# Altium schematic symbol library SCH - MCU - TI - TI MSPM0G150X VQFN-48 RGZ.SchLib: 1 symbol
Pins are listed as number, name and electrical type; pins without a type are passive.

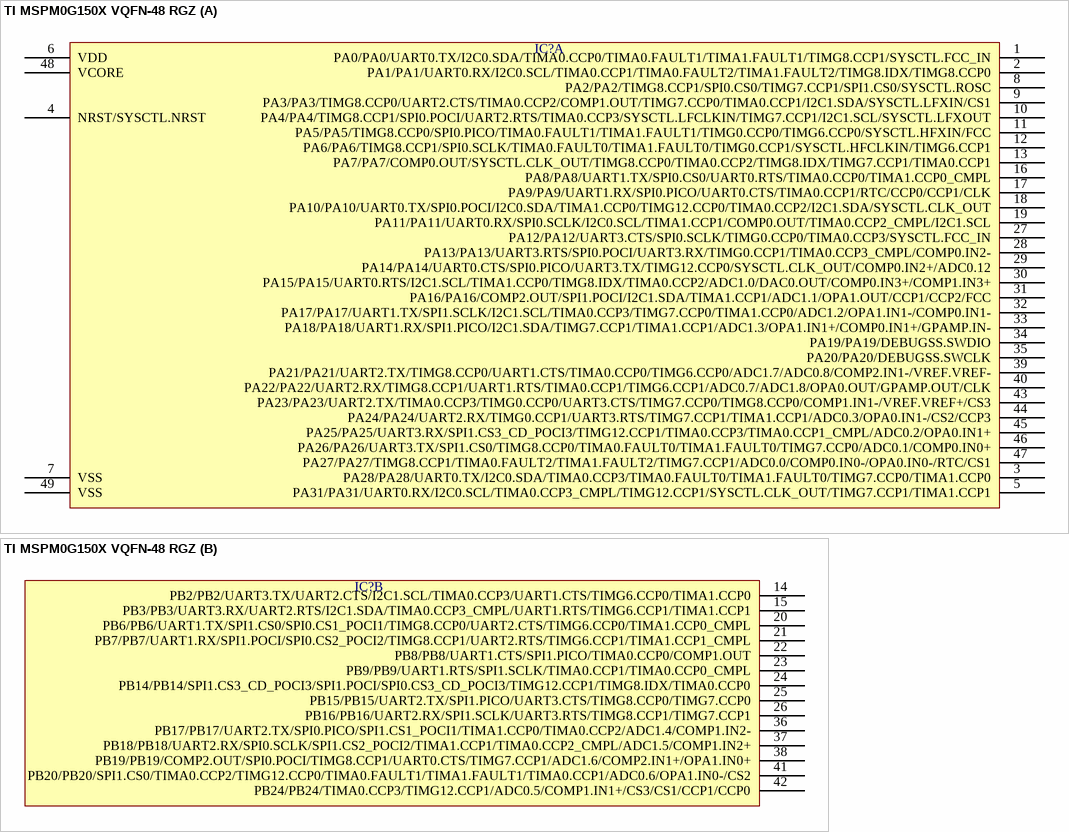
[diagram p0: symbol TI MSPM0G150X VQFN-48 RGZ]

## TI MSPM0G150X VQFN-48 RGZ
designator IC?  (value not drawn)
part A pins: 1 PA0/PA0/UART0.TX/I2C0.SDA/TIMA0.CCP0/TIMA0.FAULT1/TIMA1.FAULT1/TIMG8.CCP1/SYSCTL.FCC_IN, 2 PA1/PA1/UART0.RX/I2C0.SCL/TIMA0.CCP1/TIMA0.FAULT2/TIMA1.FAULT2/TIMG8.IDX/TIMG8.CCP0, 3 PA28/PA28/UART0.TX/I2C0.SDA/TIMA0.CCP3/TIMA0.FAULT0/TIMA1.FAULT0/TIMG7.CCP0/TIMA1.CCP0, 4 NRST/SYSCTL.NRST, 5 PA31/PA31/UART0.RX/I2C0.SCL/TIMA0.CCP3_CMPL/TIMG12.CCP1/SYSCTL.CLK_OUT/TIMG7.CCP1/TIMA1.CCP1, 6 VDD, 7 VSS, 8 PA2/PA2/TIMG8.CCP1/SPI0.CS0/TIMG7.CCP1/SPI1.CS0/SYSCTL.ROSC, 9 PA3/PA3/TIMG8.CCP0/UART2.CTS/TIMA0.CCP2/COMP1.OUT/TIMG7.CCP0/TIMA0.CCP1/I2C1.SDA/SYSCTL.LFXIN/CS1, 10 PA4/PA4/TIMG8.CCP1/SPI0.POCI/UART2.RTS/TIMA0.CCP3/SYSCTL.LFCLKIN/TIMG7.CCP1/I2C1.SCL/SYSCTL.LFXOUT, 11 PA5/PA5/TIMG8.CCP0/SPI0.PICO/TIMA0.FAULT1/TIMA1.FAULT1/TIMG0.CCP0/TIMG6.CCP0/SYSCTL.HFXIN/FCC, 12 PA6/PA6/TIMG8.CCP1/SPI0.SCLK/TIMA0.FAULT0/TIMA1.FAULT0/TIMG0.CCP1/SYSCTL.HFCLKIN/TIMG6.CCP1, 13 PA7/PA7/COMP0.OUT/SYSCTL.CLK_OUT/TIMG8.CCP0/TIMA0.CCP2/TIMG8.IDX/TIMG7.CCP1/TIMA0.CCP1, 16 PA8/PA8/UART1.TX/SPI0.CS0/UART0.RTS/TIMA0.CCP0/TIMA1.CCP0_CMPL, 17 PA9/PA9/UART1.RX/SPI0.PICO/UART0.CTS/TIMA0.CCP1/RTC/CCP0/CCP1/CLK, 18 PA10/PA10/UART0.TX/SPI0.POCI/I2C0.SDA/TIMA1.CCP0/TIMG12.CCP0/TIMA0.CCP2/I2C1.SDA/SYSCTL.CLK_OUT, 19 PA11/PA11/UART0.RX/SPI0.SCLK/I2C0.SCL/TIMA1.CCP1/COMP0.OUT/TIMA0.CCP2_CMPL/I2C1.SCL, 27 PA12/PA12/UART3.CTS/SPI0.SCLK/TIMG0.CCP0/TIMA0.CCP3/SYSCTL.FCC_IN, 28 PA13/PA13/UART3.RTS/SPI0.POCI/UART3.RX/TIMG0.CCP1/TIMA0.CCP3_CMPL/COMP0.IN2-, 29 PA14/PA14/UART0.CTS/SPI0.PICO/UART3.TX/TIMG12.CCP0/SYSCTL.CLK_OUT/COMP0.IN2+/ADC0.12, 30 PA15/PA15/UART0.RTS/I2C1.SCL/TIMA1.CCP0/TIMG8.IDX/TIMA0.CCP2/ADC1.0/DAC0.OUT/COMP0.IN3+/COMP1.IN3+, 31 PA16/PA16/COMP2.OUT/SPI1.POCI/I2C1.SDA/TIMA1.CCP1/ADC1.1/OPA1.OUT/CCP1/CCP2/FCC, 32 PA17/PA17/UART1.TX/SPI1.SCLK/I2C1.SCL/TIMA0.CCP3/TIMG7.CCP0/TIMA1.CCP0/ADC1.2/OPA1.IN1-/COMP0.IN1-, 33 PA18/PA18/UART1.RX/SPI1.PICO/I2C1.SDA/TIMG7.CCP1/TIMA1.CCP1/ADC1.3/OPA1.IN1+/COMP0.IN1+/GPAMP.IN-, 34 PA19/PA19/DEBUGSS.SWDIO, 35 PA20/PA20/DEBUGSS.SWCLK, 39 PA21/PA21/UART2.TX/TIMG8.CCP0/UART1.CTS/TIMA0.CCP0/TIMG6.CCP0/ADC1.7/ADC0.8/COMP2.IN1-/VREF.VREF-, 40 PA22/PA22/UART2.RX/TIMG8.CCP1/UART1.RTS/TIMA0.CCP1/TIMG6.CCP1/ADC0.7/ADC1.8/OPA0.OUT/GPAMP.OUT/CLK, 43 PA23/PA23/UART2.TX/TIMA0.CCP3/TIMG0.CCP0/UART3.CTS/TIMG7.CCP0/TIMG8.CCP0/COMP1.IN1-/VREF.VREF+/CS3, 44 PA24/PA24/UART2.RX/TIMG0.CCP1/UART3.RTS/TIMG7.CCP1/TIMA1.CCP1/ADC0.3/OPA0.IN1-/CS2/CCP3, 45 PA25/PA25/UART3.RX/SPI1.CS3_CD_POCI3/TIMG12.CCP1/TIMA0.CCP3/TIMA0.CCP1_CMPL/ADC0.2/OPA0.IN1+, 46 PA26/PA26/UART3.TX/SPI1.CS0/TIMG8.CCP0/TIMA0.FAULT0/TIMA1.FAULT0/TIMG7.CCP0/ADC0.1/COMP0.IN0+, 47 PA27/PA27/TIMG8.CCP1/TIMA0.FAULT2/TIMA1.FAULT2/TIMG7.CCP1/ADC0.0/COMP0.IN0-/OPA0.IN0-/RTC/CS1, 48 VCORE, 49 VSS
part B pins: 14 PB2/PB2/UART3.TX/UART2.CTS/I2C1.SCL/TIMA0.CCP3/UART1.CTS/TIMG6.CCP0/TIMA1.CCP0, 15 PB3/PB3/UART3.RX/UART2.RTS/I2C1.SDA/TIMA0.CCP3_CMPL/UART1.RTS/TIMG6.CCP1/TIMA1.CCP1, 20 PB6/PB6/UART1.TX/SPI1.CS0/SPI0.CS1_POCI1/TIMG8.CCP0/UART2.CTS/TIMG6.CCP0/TIMA1.CCP0_CMPL, 21 PB7/PB7/UART1.RX/SPI1.POCI/SPI0.CS2_POCI2/TIMG8.CCP1/UART2.RTS/TIMG6.CCP1/TIMA1.CCP1_CMPL, 22 PB8/PB8/UART1.CTS/SPI1.PICO/TIMA0.CCP0/COMP1.OUT, 23 PB9/PB9/UART1.RTS/SPI1.SCLK/TIMA0.CCP1/TIMA0.CCP0_CMPL, 24 PB14/PB14/SPI1.CS3_CD_POCI3/SPI1.POCI/SPI0.CS3_CD_POCI3/TIMG12.CCP1/TIMG8.IDX/TIMA0.CCP0, 25 PB15/PB15/UART2.TX/SPI1.PICO/UART3.CTS/TIMG8.CCP0/TIMG7.CCP0, 26 PB16/PB16/UART2.RX/SPI1.SCLK/UART3.RTS/TIMG8.CCP1/TIMG7.CCP1, 36 PB17/PB17/UART2.TX/SPI0.PICO/SPI1.CS1_POCI1/TIMA1.CCP0/TIMA0.CCP2/ADC1.4/COMP1.IN2-, 37 PB18/PB18/UART2.RX/SPI0.SCLK/SPI1.CS2_POCI2/TIMA1.CCP1/TIMA0.CCP2_CMPL/ADC1.5/COMP1.IN2+, 38 PB19/PB19/COMP2.OUT/SPI0.POCI/TIMG8.CCP1/UART0.CTS/TIMG7.CCP1/ADC1.6/COMP2.IN1+/OPA1.IN0+, 41 PB20/PB20/SPI1.CS0/TIMA0.CCP2/TIMG12.CCP0/TIMA0.FAULT1/TIMA1.FAULT1/TIMA0.CCP1/ADC0.6/OPA1.IN0-/CS2, 42 PB24/PB24/TIMA0.CCP3/TIMG12.CCP1/ADC0.5/COMP1.IN1+/CS3/CS1/CCP1/CCP0